# EAGLE library part WEMOS-D1-MINI-32 (library FansElectronics-Modul)
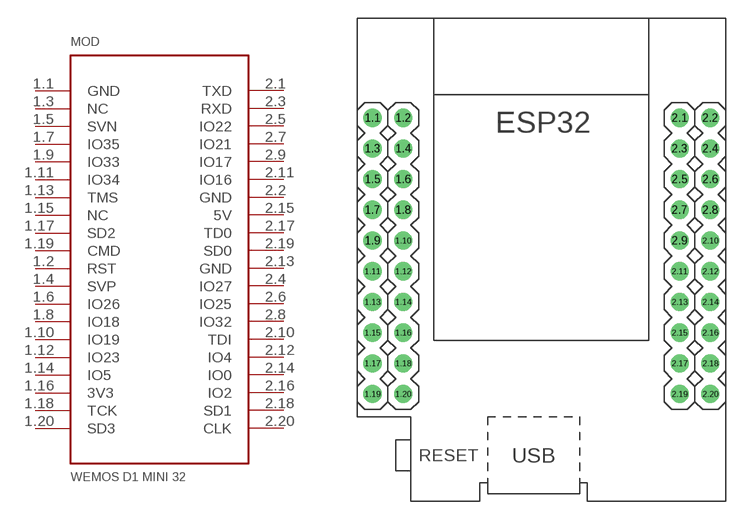
[diagram p20: symbol with the pads of WEMOS-D1-MINI-ESP32; footprint WEMOS-D1-MINI-ESP32]

Designator prefix MOD

## WEMOS-D1-MINI-32  [WEMOS-D1-MINI-ESP32]
1.1  GND  pwr
1.2  RST
1.3  NC  nc
1.4  SVP
1.5  SVN
1.6  IO26
1.7  IO35
1.8  IO18
1.9  IO33
1.10  IO19
1.11  IO34
1.12  IO23
1.13  TMS
1.14  IO5
1.15  NC  nc
1.16  3V3  pwr
1.17  SD2
1.18  TCK
1.19  CMD
1.20  SD3
2.1  TXD
2.2  GND  pwr
2.3  RXD
2.4  IO27
2.5  IO22
2.6  IO25
2.7  IO21
2.8  IO32
2.9  IO17
2.10  TDI
2.11  IO16
2.12  IO4
2.13  GND  pwr
2.14  IO0
2.15  5V  pwr
2.16  IO2
2.17  TD0
2.18  SD1
2.19  SD0
2.20  CLK

## Footprint WEMOS-D1-MINI-ESP32 (pad centres in mm)
drill 1: 1.1 -13.97,9.525; 1.2 -11.43,9.525; 1.3 -13.97,6.985; 1.4 -11.43,6.985; 1.5 -13.97,4.445; 1.6 -11.43,4.445; 1.7 -13.97,1.905; 1.8 -11.43,1.905; 1.9 -13.97,-0.635; 1.10 -11.43,-0.635; 1.11 -13.97,-3.175; 1.12 -11.43,-3.175; 1.13 -13.97,-5.715; 1.14 -11.43,-5.715; 1.15 -13.97,-8.255; 1.16 -11.43,-8.255; 1.17 -13.97,-10.795; 1.18 -11.43,-10.795; 1.19 -13.97,-13.335; 1.20 -11.43,-13.335; 2.1 11.43,9.525; 2.2 13.97,9.525; 2.3 11.43,6.985; 2.4 13.97,6.985; 2.5 11.43,4.445; 2.6 13.97,4.445; 2.7 11.43,1.905; 2.8 13.97,1.905; 2.9 11.43,-0.635; 2.10 13.97,-0.635; 2.11 11.43,-3.175; 2.12 13.97,-3.175; 2.13 11.43,-5.715; 2.14 13.97,-5.715; 2.15 11.43,-8.255; 2.16 13.97,-8.255; 2.17 11.43,-10.795; 2.18 13.97,-10.795; 2.19 11.43,-13.335; 2.20 13.97,-13.335